# EAGLE library part RMK-3-93+ (library kiss_z)
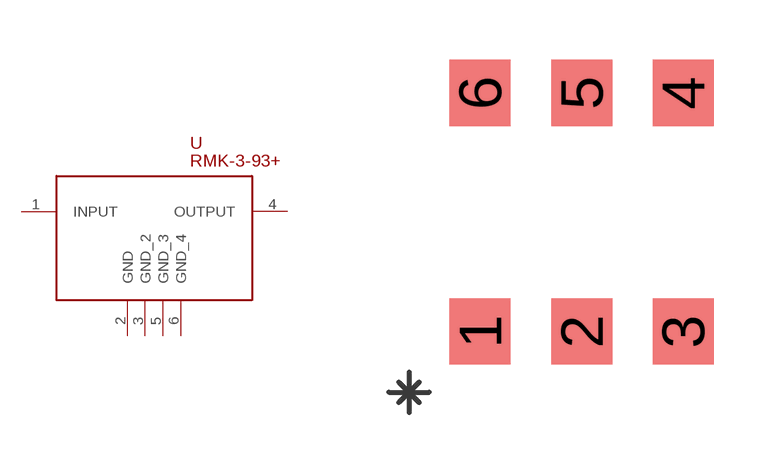
[diagram p2: symbol with the pads of TT1224; footprint TT1224]

Designator prefix U

## RMK-3-93+  [TT1224]
1  INPUT  in
2  GND  pwr
3  GND_2  pwr
4  OUTPUT  out
5  GND_3  pwr
6  GND_4  pwr

## Footprint TT1224 (pad centres in mm)
smd 1.524 x 1.651: 1 0,0; 2 2.54,0; 3 5.08,0; 4 5.08,5.969; 5 2.54,5.969; 6 0,5.969